# Altium integrated library Inductor_2525.IntLib: 1 symbol
Pins are listed as number, name and electrical type; pins without a type are passive.

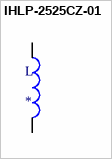
[diagram p0: symbol IHLP-2525CZ-01]

## IHLP-2525CZ-01
designator L
4.7ÂµH Shielded Molded Inductor 5.5A 40mOhm Max Nonstandard; MP: IHLP-2525CZ-01; MF: Vishay Dale; SnapEDA_Link: https://www.snapeda.com/parts/IHLP-2525CZ-01/Vishay%20Dale/view-part/561997/?ref=snap; Availability: Unavailable; Package: Nonstandard Vishay Dale; Price: None; Value: *
footprint 2525
pins: P$1, P$2